# Altium footprint library SMD-6.PcbLib: 1 footprints
Each footprint in its own frame and in the unit in brackets; x right, y up, seen from the top. Pads: shape width x height; smd on the part's side, far side on the other; paste and mask are expansions set on the pad; w line width, h text height; cw(c..) or ccw(c..) is an arc to the next point about the centre after c.
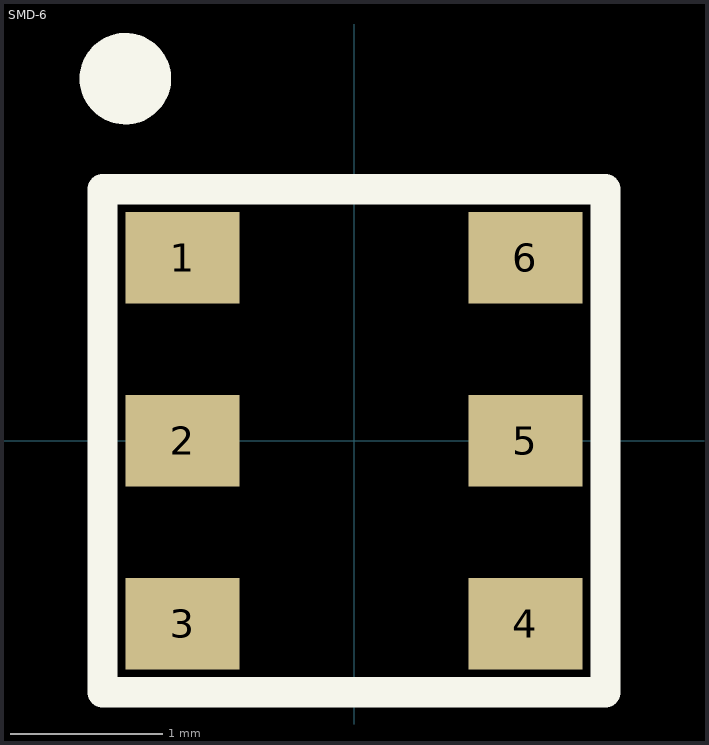
[diagram p0: the footprint, top view; thin cyan lines are the x and y axes]

## SMD-6 [mm]
pads (6):
  rect 0.75x0.6 smd paste+0 mask+0.05: 1(-1.125,1.2) 2(-1.125,0) 3(-1.125,-1.2) 4(1.125,-1.2) 5(1.125,0) 6(1.125,1.2)
Top Overlay:
  circle w0.3: c-1.5,2.375 r0.15
  lines w0.2: -1.65,-1.65 -1.65,1.65 1.65,1.65 1.65,-1.65 -1.65,-1.65
Top Assembly:
  circle w0.2: c-1.15,1.25 r0.1
  lines w0.1: -1.65,-1.65 -1.65,1.65 1.65,1.65 1.65,-1.65 -1.65,-1.65
  text "'.Designator'" at -0.5,-0.375 h0.7
3D body "SMD-6.stp": height 1.1, standoff 0, extent -1.5,-1.5 1.5,1.5